# EAGLE library part EADOGMXXXA (library seb)
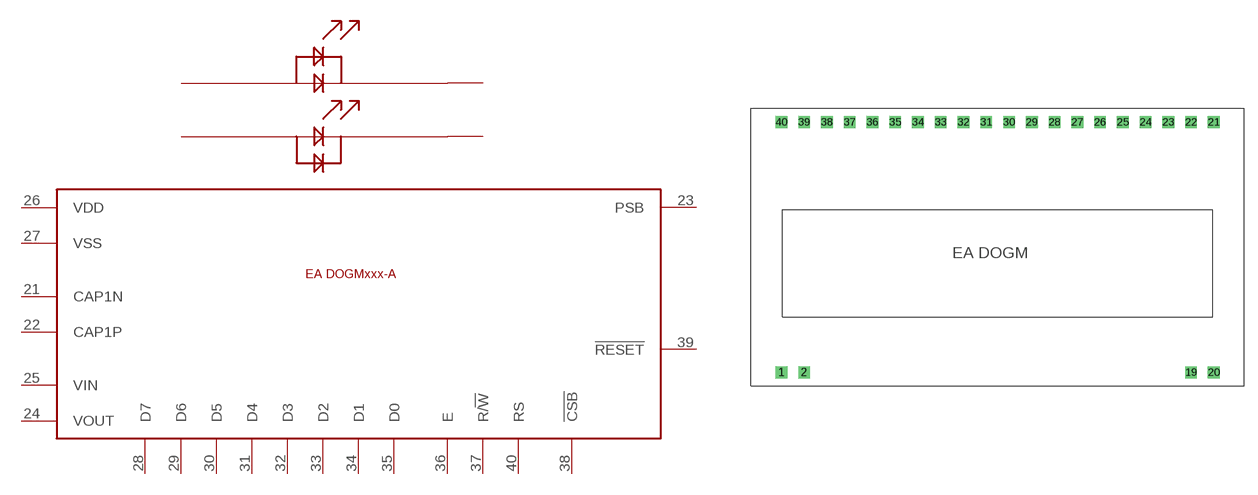
[diagram p24: symbol with the pads of DOGM081; footprint DOGM081]

Designator prefix -

## EADOGMXXXA  [DOGM081]
1  A1
2  C1
19  C2
20  A2
21  CAP1N
22  CAP1P
23  PSB
24  VOUT
25  VIN
26  VDD
27  VSS
28  D7
29  D6
30  D5
31  D4
32  D3
33  D2
34  D1
35  D0
36  E
37  R/!W
38  !CSB
39  !RESET
40  RS

## Footprint DOGM081 (pad centres in mm)
drill 0.8 square: 1 0,0; 2 2.54,0; 19 45.72,0; 20 48.26,0; 21 48.26,27.94; 22 45.72,27.94; 23 43.18,27.94; 24 40.64,27.94; 25 38.1,27.94; 26 35.56,27.94; 27 33.02,27.94; 28 30.48,27.94; 29 27.94,27.94; 30 25.4,27.94; 31 22.86,27.94; 32 20.32,27.94; 33 17.78,27.94; 34 15.24,27.94; 35 12.7,27.94; 36 10.16,27.94; 37 7.62,27.94; 38 5.08,27.94; 39 2.54,27.94; 40 0,27.94